# Altium footprint library CAP 400V.PcbLib: 1 footprints
Each footprint in its own frame and in the unit in brackets; x right, y up, seen from the top. Pads: shape width x height; smd on the part's side, far side on the other; paste and mask are expansions set on the pad; w line width, h text height; cw(c..) or ccw(c..) is an arc to the next point about the centre after c.
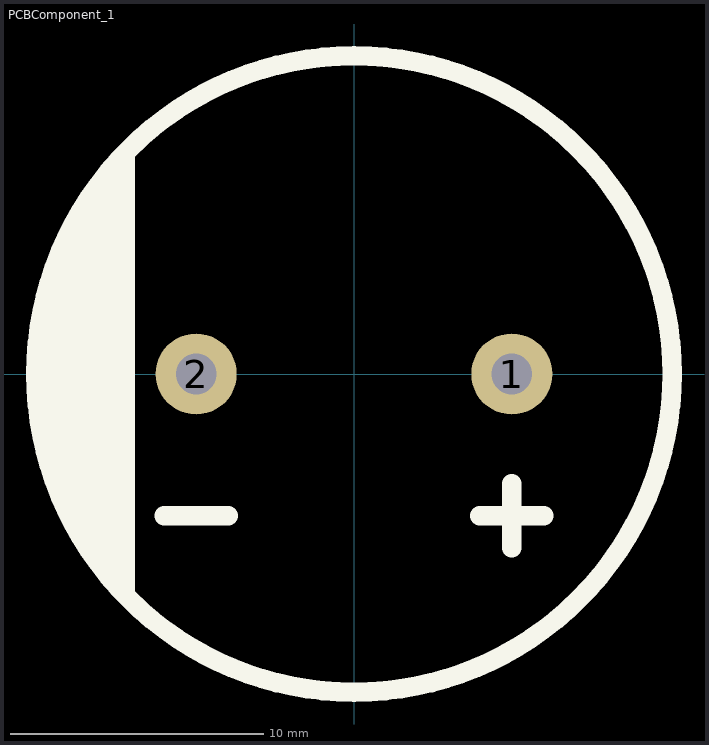
[diagram p0: the footprint, top view; thin cyan lines are the x and y axes]

## PCBComponent_1 [mm]
pads (2):
  round 3.2 hole 1.6: 1(6.223,0) 2(-6.223,0)
Top Overlay:
  circle w0.762: c0,0 r12.545
  lines w0.762: -12.065,-3.429 -12.065,3.302 ; -11.557,-4.826 -11.557,4.699 ; -11.049,-5.842 -11.049,5.842 ; -10.541,-6.731 -10.541,6.604 ; -10.033,-7.493 -10.033,7.366 ; -9.525,-8.128 -9.525,8.001 ; -9.017,-8.636 -9.017,8.636 ; -7.493,-5.588 -4.953,-5.588 ; 4.953,-5.588 7.493,-5.588 ; 6.223,-6.858 6.223,-4.318
3D body "Cap electrolitic radial 25x41.STEP": height 41.01, standoff -1.49, extent -12.446,-12.498 12.545,12.498